# Altium integrated library TI_Logic_Little_Logic.IntLib: 1164 symbols (part 16 of 35)
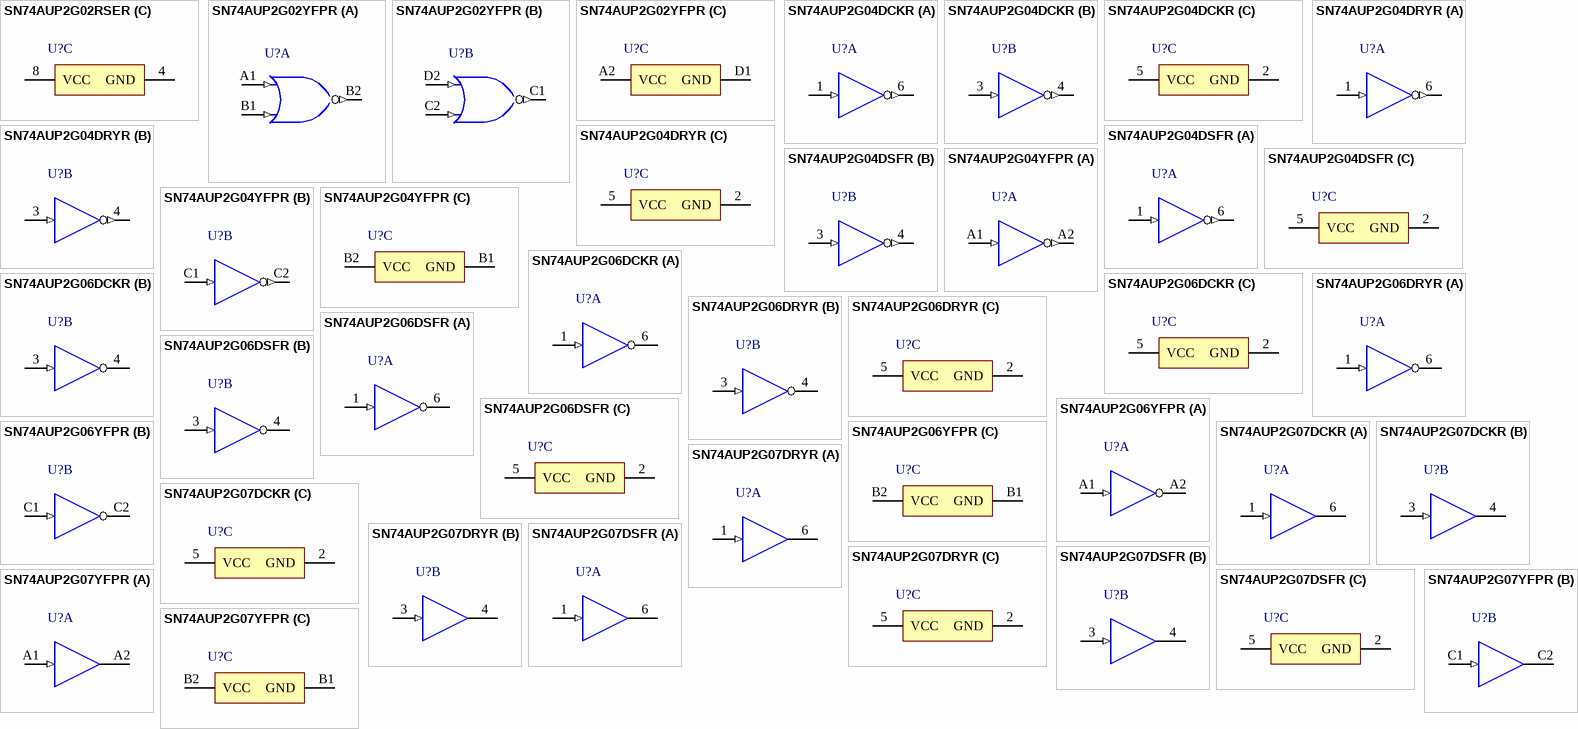
[diagram p75: symbols SN74AUP2G02RSER to SN74AUP2G07YFPR]

## SN74AUP2G07YFPR
designator U?
Low-Power Dual Buffer/Driver With Open-Drain Outputs, YZP0006AAAA, LARGE T&R; Generic Part Number: SN74AUP2G07; Manufacturer: Texas Instruments; PartNumber: SN74AUP2G07YFPR; VCC(Min)(V): 0.8; VCC(Max)(V): 3.6; Output Type: CMOS; ICC @ Nom Voltage(Max)(mA): 0.0009; Bits(#): 2; F @ Nom Voltage(Max)(Mhz): 100; Rating: Catalog; Technology Family: AUP; Voltage(Nom)(V): 0.8,1.2,1.5,1.8,2.5,3.3; Schmitt Trigger: No; Output Drive (IOL/IOH)(Max)(mA): 20/-20; tpd @ Nom Voltage(Max)(ns): 26.5,14.4,9.4,9.7,6.7,9.7; Logic: True; Sub-Family: Non-Inverting Buffer/Driver; DatasheetVersion: SCES748C; PackageReference: YZP0006AAAA; Supplier 1: Mouser; Supplier Part Number 1: 595-SN74AUP2G07YFPR; Supplier 2: Digi-Key; Supplier Part Number 2: 296-25206-2-ND; Supplier 3: Digi-Key; Supplier Part Number 3: 296-25206-1-ND; Supplier 4: Digi-Key; Supplier Part Number 4: 296-25206-6-ND; Input Type: CMOS; Operating Temperature Range(C): -40 to 85; 3-State Output: No; ComponentLink1Description: Manufacturer URL; ComponentLink1URL: http://www.ti.com/; ComponentLink2Description: Datasheet; ComponentLink2URL: http://www.ti.com/lit/ds/symlink/sn74aup2g07.pdf
footprint YZP0006AAAA (BGA, 6-Balls, Body 1.16x0.76mm, Pitch 0.4mm)
part A pins: A1 1A (in), A2 1Y (oc)
part B pins: C1 2A (in), C2 2Y (oc)
part C pins: B1 GND (power), B2 VCC (power)

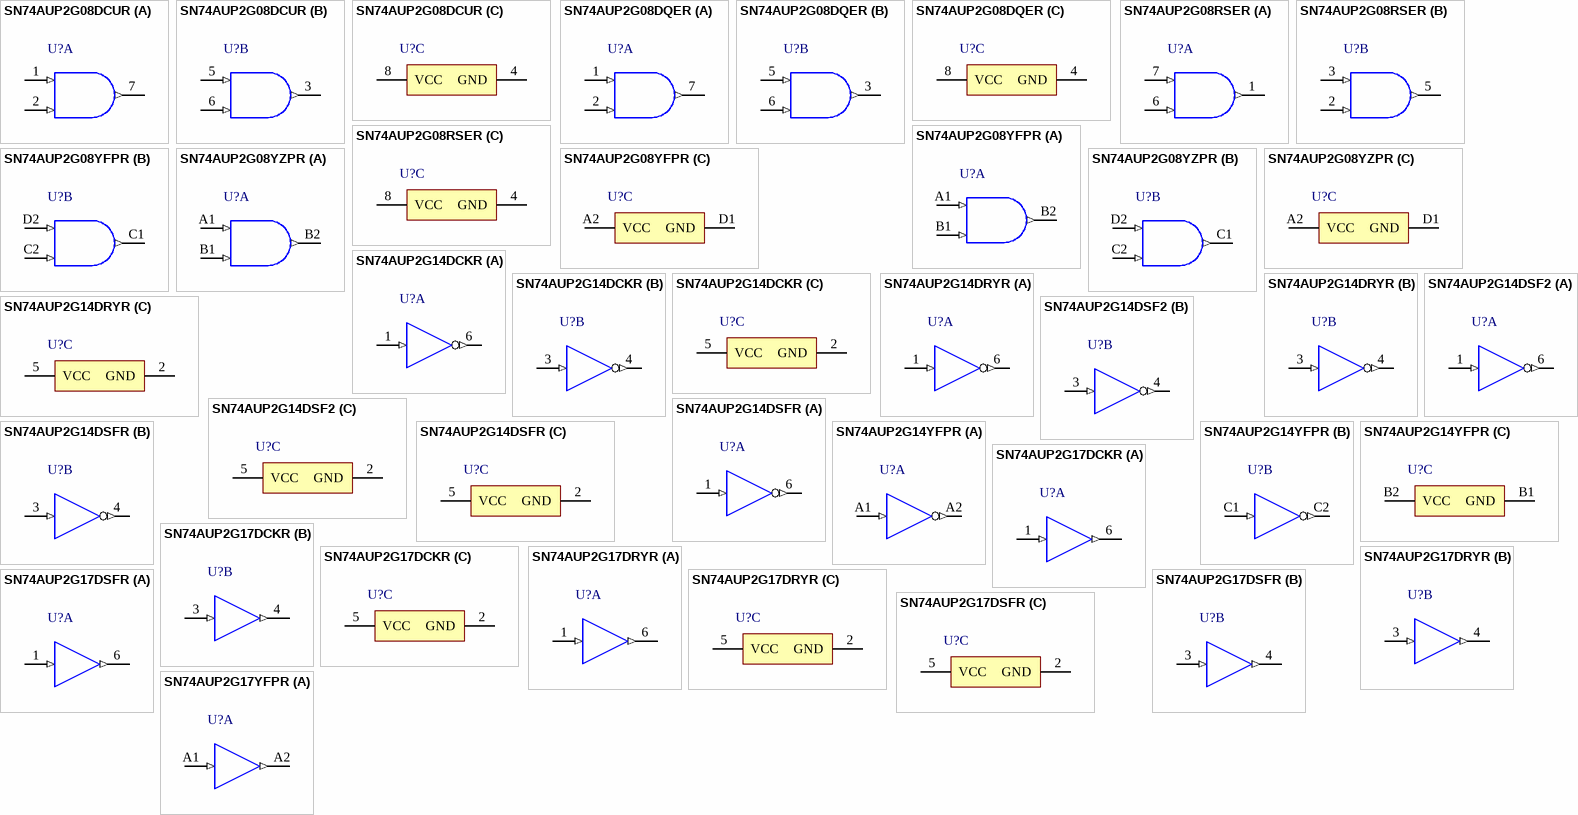
[diagram p25: symbols SN74AUP2G08DCUR to SN74AUP2G17YFPR]

## SN74AUP2G08DCUR
designator U?
Low-Power Dual 2-Input Positive-AND Gate, DCU0008A, LARGE T&R; Generic Part Number: SN74AUP2G08; Manufacturer: Texas Instruments; PartNumber: SN74AUP2G08DCUR; VCC(Min)(V): 0.8; VCC(Max)(V): 3.6; Output Type: CMOS; ICC @ Nom Voltage(Max)(mA): 0.0009; Bits(#): 2; F @ Nom Voltage(Max)(Mhz): 100; Rating: Catalog; Technology Family: AUP; Voltage(Nom)(V): 0.8,1.2,1.5,1.8,2.5,3.3; Schmitt Trigger: No; Output Drive (IOL/IOH)(Max)(mA): 20/-20; tpd @ Nom Voltage(Max)(ns): 31.8,26.3,16.6,12.9,8.8,6.7; Logic: True; Gate Type: AND; DatasheetVersion: SCES681D; PackageReference: DCU0008A; Supplier 1: Mouser; Supplier Part Number 1: 595-SN74AUP2G08DCUR; Supplier 2: Digi-Key; Supplier Part Number 2: 296-32271-2-ND; Supplier 3: Digi-Key; Supplier Part Number 3: 296-32271-1-ND; Supplier 4: Digi-Key; Supplier Part Number 4: 296-32271-6-ND; Input Type: CMOS; Operating Temperature Range(C): -40 to 85; Sub-Family: AND Gate; 3-State Output: No; ComponentLink1Description: Manufacturer URL; ComponentLink1URL: http://www.ti.com/; ComponentLink2Description: Datasheet; ComponentLink2URL: http://www.ti.com/lit/ds/symlink/sn74aup2g08.pdf
footprint DCU0008A_N (SOP, 8-Leads, Body 2.4x2.1mm, Pitch 0.5mm, IPC Medium Density)
footprint DCU0008A_M (SOP, 8-Leads, Body 2.4x2.1mm, Pitch 0.5mm, IPC Low Density)
footprint DCU0008A_L (SOP, 8-Leads, Body 2.4x2.1mm, Pitch 0.5mm, IPC High Density)
part A pins: 1 1A (in), 2 1B (in), 7 1Y (out)
part B pins: 3 2Y (out), 5 2A (in), 6 2B (in)
part C pins: 4 GND (power), 8 VCC (power)

## SN74AUP2G08DQER
designator U?
Low-Power Dual 2-Input Positive-AND Gate, DQE0008A, LARGE T&R; Generic Part Number: SN74AUP2G08; Manufacturer: Texas Instruments; PartNumber: SN74AUP2G08DQER; VCC(Min)(V): 0.8; VCC(Max)(V): 3.6; Output Type: CMOS; ICC @ Nom Voltage(Max)(mA): 0.0009; Bits(#): 2; F @ Nom Voltage(Max)(Mhz): 100; Rating: Catalog; Technology Family: AUP; Voltage(Nom)(V): 0.8,1.2,1.5,1.8,2.5,3.3; Schmitt Trigger: No; Output Drive (IOL/IOH)(Max)(mA): 20/-20; tpd @ Nom Voltage(Max)(ns): 31.8,26.3,16.6,12.9,8.8,6.7; Logic: True; Gate Type: AND; DatasheetVersion: SCES681D; PackageReference: DQE0008A; Supplier 1: Mouser; Supplier Part Number 1: 595-SN74AUP2G08DQER; Supplier 2: Digi-Key; Supplier Part Number 2: 296-25638-2-ND; Supplier 3: Digi-Key; Supplier Part Number 3: 296-25638-1-ND; Supplier 4: Digi-Key; Supplier Part Number 4: 296-25638-6-ND; Input Type: CMOS; Operating Temperature Range(C): -40 to 85; Sub-Family: AND Gate; 3-State Output: No; ComponentLink1Description: Manufacturer URL; ComponentLink1URL: http://www.ti.com/; ComponentLink2Description: Datasheet; ComponentLink2URL: http://www.ti.com/lit/ds/symlink/sn74aup2g08.pdf
footprint DQE0008A_V (SON, 8-Leads, Body 1.4x1mm, Pitch 0.35mm, TI Recommend)
part A pins: 1 1A (in), 2 1B (in), 7 1Y (out)
part B pins: 3 2Y (out), 5 2A (in), 6 2B (in)
part C pins: 4 GND (power), 8 VCC (power)

## SN74AUP2G08RSER
designator U?
Low-Power Dual 2-Input Positive-AND Gate, RSE0008A, LARGE T&R; Generic Part Number: SN74AUP2G08; Manufacturer: Texas Instruments; PartNumber: SN74AUP2G08RSER; VCC(Min)(V): 0.8; VCC(Max)(V): 3.6; Output Type: CMOS; ICC @ Nom Voltage(Max)(mA): 0.0009; Bits(#): 2; F @ Nom Voltage(Max)(Mhz): 100; Rating: Catalog; Technology Family: AUP; Voltage(Nom)(V): 0.8,1.2,1.5,1.8,2.5,3.3; Schmitt Trigger: No; Output Drive (IOL/IOH)(Max)(mA): 20/-20; tpd @ Nom Voltage(Max)(ns): 31.8,26.3,16.6,12.9,8.8,6.7; Logic: True; Gate Type: AND; DatasheetVersion: SCES681D; PackageReference: RSE0008A; Supplier 1: Mouser; Supplier Part Number 1: 595-SN74AUP2G08RSER; Supplier 2: Digi-Key; Supplier Part Number 2: 296-27412-2-ND; Supplier 3: Digi-Key; Supplier Part Number 3: 296-27412-1-ND; Supplier 4: Digi-Key; Supplier Part Number 4: 296-27412-6-ND; Input Type: CMOS; Operating Temperature Range(C): -40 to 85; Sub-Family: AND Gate; 3-State Output: No; ComponentLink1Description: Manufacturer URL; ComponentLink1URL: http://www.ti.com/; ComponentLink2Description: Datasheet; ComponentLink2URL: http://www.ti.com/lit/ds/symlink/sn74aup2g08.pdf
footprint RSE0008A_V (QFN, 8-Leads, Body 1.5x1.5mm, Pitch 0.5mm, TI Recommend)
part A pins: 1 1Y (out), 6 1B (in), 7 1A (in)
part B pins: 2 2B (in), 3 2A (in), 5 2Y (out)
part C pins: 4 GND (power), 8 VCC (power)

## SN74AUP2G08YFPR
designator U?
Low-Power Dual 2-Input Positive-AND Gate, YZP0008AAAA, LARGE T&R; Generic Part Number: SN74AUP2G08; Manufacturer: Texas Instruments; PartNumber: SN74AUP2G08YFPR; VCC(Min)(V): 0.8; VCC(Max)(V): 3.6; Output Type: CMOS; ICC @ Nom Voltage(Max)(mA): 0.0009; Bits(#): 2; F @ Nom Voltage(Max)(Mhz): 100; Rating: Catalog; Technology Family: AUP; Voltage(Nom)(V): 0.8,1.2,1.5,1.8,2.5,3.3; Schmitt Trigger: No; Output Drive (IOL/IOH)(Max)(mA): 20/-20; tpd @ Nom Voltage(Max)(ns): 31.8,26.3,16.6,12.9,8.8,6.7; Logic: True; Gate Type: AND; DatasheetVersion: SCES681D; PackageReference: YZP0008AAAA; Supplier 1: Mouser; Supplier Part Number 1: 595-SN74AUP2G08YFPR; Supplier 2: Digi-Key; Supplier Part Number 2: 296-23530-2-ND; Supplier 3: Digi-Key; Supplier Part Number 3: 296-23530-1-ND; Supplier 4: Digi-Key; Supplier Part Number 4: 296-23530-6-ND; Input Type: CMOS; Operating Temperature Range(C): -40 to 85; Sub-Family: AND Gate; 3-State Output: No; ComponentLink1Description: Manufacturer URL; ComponentLink1URL: http://www.ti.com/; ComponentLink2Description: Datasheet; ComponentLink2URL: http://www.ti.com/lit/ds/symlink/sn74aup2g08.pdf
footprint YZP0008AAAA (BGA, 8-Balls, Body 1.56x0.76mm, Pitch 0.4mm)
part A pins: A1 1A (in), B1 1B (in), B2 1Y (out)
part B pins: C1 2Y (out), C2 2B (in), D2 2A (in)
part C pins: A2 VCC (power), D1 GND (power)

## SN74AUP2G08YZPR
designator U?
Low-Power Dual 2-Input Positive-AND Gate, YZP0008ADAD, LARGE T&R; Generic Part Number: SN74AUP2G08; Manufacturer: Texas Instruments; PartNumber: SN74AUP2G08YZPR; VCC(Min)(V): 0.8; VCC(Max)(V): 3.6; Output Type: CMOS; ICC @ Nom Voltage(Max)(mA): 0.0009; Bits(#): 2; F @ Nom Voltage(Max)(Mhz): 100; Rating: Catalog; Technology Family: AUP; Voltage(Nom)(V): 0.8,1.2,1.5,1.8,2.5,3.3; Schmitt Trigger: No; Output Drive (IOL/IOH)(Max)(mA): 20/-20; tpd @ Nom Voltage(Max)(ns): 31.8,26.3,16.6,12.9,8.8,6.7; Logic: True; Gate Type: AND; DatasheetVersion: SCES681D; PackageReference: YZP0008ADAD; Supplier 1: Mouser; Supplier Part Number 1: 595-SN74AUP2G08YZPR; Supplier 2: Digi-Key; Supplier Part Number 2: 296-23531-2-ND; Supplier 3: Digi-Key; Supplier Part Number 3: 296-23531-1-ND; Supplier 4: Digi-Key; Supplier Part Number 4: 296-23531-6-ND; Input Type: CMOS; Operating Temperature Range(C): -40 to 85; Sub-Family: AND Gate; 3-State Output: No; ComponentLink1Description: Manufacturer URL; ComponentLink1URL: http://www.ti.com/; ComponentLink2Description: Datasheet; ComponentLink2URL: http://www.ti.com/lit/ds/symlink/sn74aup2g08.pdf
footprint YZP0008ADAD (BGA, 8-Balls, Body 1.89x0.89mm, Pitch 0.5mm)
part A pins: A1 1A (in), B1 1B (in), B2 1Y (out)
part B pins: C1 2Y (out), C2 2B (in), D2 2A (in)
part C pins: A2 VCC (power), D1 GND (power)

## SN74AUP2G14DCKR
designator U?
Low-Power Dual Schmitt-Trigger Inverter, DCK0006A, LARGE T&R; Generic Part Number: SN74AUP2G14; Manufacturer: Texas Instruments; PartNumber: SN74AUP2G14DCKR; VCC(Min)(V): 0.8; VCC(Max)(V): 3.6; Output Type: CMOS; ICC @ Nom Voltage(Max)(mA): 0.0009; Bits(#): 2; F @ Nom Voltage(Max)(Mhz): 100; Rating: Catalog; Technology Family: AUP; Voltage(Nom)(V): 0.8,1.2,1.5,1.8,2.5,3.3; Schmitt Trigger: Yes; Output Drive (IOL/IOH)(Max)(mA): 20/-20; tpd @ Nom Voltage(Max)(ns): 32.8,20.9,14.2,11,7.6,6.2; Logic: Inverting; Sub-Family: Inverting Buffer/Driver; 3-State Output: No; DatasheetVersion: SCES749C; PackageReference: DCK0006A; Supplier 1: Mouser; Supplier Part Number 1: 595-SN74AUP2G14DCKR; Supplier 2: Digi-Key; Supplier Part Number 2: 296-27361-2-ND; Supplier 3: Digi-Key; Supplier Part Number 3: 296-27361-1-ND; Supplier 4: Digi-Key; Supplier Part Number 4: 296-27361-6-ND; Input Type: CMOS; Operating Temperature Range(C): -40 to 85; ComponentLink1Description: Manufacturer URL; ComponentLink1URL: http://www.ti.com/; ComponentLink2Description: Datasheet; ComponentLink2URL: http://www.ti.com/lit/ds/symlink/sn74aup2g14.pdf
footprint DCK0006A_N (SOT23, 6-Leads, Body 2.15x1.4mm, Pitch 0.65mm, IPC Medium Density)
footprint DCK0006A_M (SOT23, 6-Leads, Body 2.15x1.4mm, Pitch 0.65mm, IPC Low Density)
footprint DCK0006A_L (SOT23, 6-Leads, Body 2.15x1.4mm, Pitch 0.65mm, IPC High Density)
part A pins: 1 1A (in), 6 1Y (out)
part B pins: 3 2A (in), 4 2Y (out)
part C pins: 2 GND (power), 5 VCC (power)

## SN74AUP2G14DRYR
designator U?
Low-Power Dual Schmitt-Trigger Inverter, DRY0006A, LARGE T&R; Generic Part Number: SN74AUP2G14; Manufacturer: Texas Instruments; PartNumber: SN74AUP2G14DRYR; VCC(Min)(V): 0.8; VCC(Max)(V): 3.6; Output Type: CMOS; ICC @ Nom Voltage(Max)(mA): 0.0009; Bits(#): 2; F @ Nom Voltage(Max)(Mhz): 100; Rating: Catalog; Technology Family: AUP; Voltage(Nom)(V): 0.8,1.2,1.5,1.8,2.5,3.3; Schmitt Trigger: Yes; Output Drive (IOL/IOH)(Max)(mA): 20/-20; tpd @ Nom Voltage(Max)(ns): 32.8,20.9,14.2,11,7.6,6.2; Logic: Inverting; Sub-Family: Inverting Buffer/Driver; 3-State Output: No; DatasheetVersion: SCES749C; PackageReference: DRY0006A; Supplier 1: Mouser; Supplier Part Number 1: 595-SN74AUP2G14DRYR; Supplier 2: Digi-Key; Supplier Part Number 2: 296-27362-2-ND; Supplier 3: Digi-Key; Supplier Part Number 3: 296-27362-1-ND; Supplier 4: Digi-Key; Supplier Part Number 4: 296-27362-6-ND; Input Type: CMOS; Operating Temperature Range(C): -40 to 85; ComponentLink1Description: Manufacturer URL; ComponentLink1URL: http://www.ti.com/; ComponentLink2Description: Datasheet; ComponentLink2URL: http://www.ti.com/lit/ds/symlink/sn74aup2g14.pdf
footprint DRY0006A_V (SON, 6-Leads, Body 1.45x1mm, Pitch 0.5mm)
part A pins: 1 1A (in), 6 1Y (out)
part B pins: 3 2A (in), 4 2Y (out)
part C pins: 2 GND (power), 5 VCC (power)

## SN74AUP2G14DSF2
designator U?
Low-Power Dual Schmitt-Trigger Inverter, DSF0006A, LARGE T&R; Generic Part Number: SN74AUP2G14; Manufacturer: Texas Instruments; PartNumber: SN74AUP2G14DSF2; VCC(Min)(V): 0.8; VCC(Max)(V): 3.6; Output Type: CMOS; ICC @ Nom Voltage(Max)(mA): 0.0009; Bits(#): 2; F @ Nom Voltage(Max)(Mhz): 100; Rating: Catalog; Technology Family: AUP; Voltage(Nom)(V): 0.8,1.2,1.5,1.8,2.5,3.3; Schmitt Trigger: Yes; Output Drive (IOL/IOH)(Max)(mA): 20/-20; tpd @ Nom Voltage(Max)(ns): 32.8,20.9,14.2,11,7.6,6.2; Logic: Inverting; Sub-Family: Inverting Buffer/Driver; 3-State Output: No; DatasheetVersion: SCES749C; PackageReference: DSF0006A; Supplier 1: Mouser; Supplier Part Number 1: 595-SN74AUP2G14DSF2; Supplier 2: Digi-Key; Supplier Part Number 2: 296-30287-2-ND; Supplier 3: Digi-Key; Supplier Part Number 3: 296-30287-1-ND; Supplier 4: Digi-Key; Supplier Part Number 4: 296-30287-6-ND; Input Type: CMOS; Operating Temperature Range(C): -40 to 85; ComponentLink1Description: Manufacturer URL; ComponentLink1URL: http://www.ti.com/; ComponentLink2Description: Datasheet; ComponentLink2URL: http://www.ti.com/lit/ds/symlink/sn74aup2g14.pdf
footprint DSF0006A_V (SON, 6-Leads, Body 1x1mm, Pitch 0.35mm, TI Recommend)
part A pins: 1 1A (in), 6 1Y (out)
part B pins: 3 2A (in), 4 2Y (out)
part C pins: 2 GND (power), 5 VCC (power)

## SN74AUP2G14DSFR
designator U?
Low-Power Dual Schmitt-Trigger Inverter, DSF0006A, LARGE T&R; Generic Part Number: SN74AUP2G14; Manufacturer: Texas Instruments; PartNumber: SN74AUP2G14DSFR; VCC(Min)(V): 0.8; VCC(Max)(V): 3.6; Output Type: CMOS; ICC @ Nom Voltage(Max)(mA): 0.0009; Bits(#): 2; F @ Nom Voltage(Max)(Mhz): 100; Rating: Catalog; Technology Family: AUP; Voltage(Nom)(V): 0.8,1.2,1.5,1.8,2.5,3.3; Schmitt Trigger: Yes; Output Drive (IOL/IOH)(Max)(mA): 20/-20; tpd @ Nom Voltage(Max)(ns): 32.8,20.9,14.2,11,7.6,6.2; Logic: Inverting; Sub-Family: Inverting Buffer/Driver; 3-State Output: No; DatasheetVersion: SCES749C; PackageReference: DSF0006A; Supplier 1: Mouser; Supplier Part Number 1: 595-SN74AUP2G14DSFR; Supplier 2: Digi-Key; Supplier Part Number 2: 296-27363-2-ND; Supplier 3: Digi-Key; Supplier Part Number 3: 296-27363-1-ND; Supplier 4: Digi-Key; Supplier Part Number 4: 296-27363-6-ND; Input Type: CMOS; Operating Temperature Range(C): -40 to 85; ComponentLink1Description: Manufacturer URL; ComponentLink1URL: http://www.ti.com/; ComponentLink2Description: Datasheet; ComponentLink2URL: http://www.ti.com/lit/ds/symlink/sn74aup2g14.pdf
footprint DSF0006A_V (SON, 6-Leads, Body 1x1mm, Pitch 0.35mm, TI Recommend)
part A pins: 1 1A (in), 6 1Y (out)
part B pins: 3 2A (in), 4 2Y (out)
part C pins: 2 GND (power), 5 VCC (power)

## SN74AUP2G14YFPR
designator U?
Low-Power Dual Schmitt-Trigger Inverter, YZP0006AAAA, LARGE T&R; Generic Part Number: SN74AUP2G14; Manufacturer: Texas Instruments; PartNumber: SN74AUP2G14YFPR; VCC(Min)(V): 0.8; VCC(Max)(V): 3.6; Output Type: CMOS; ICC @ Nom Voltage(Max)(mA): 0.0009; Bits(#): 2; F @ Nom Voltage(Max)(Mhz): 100; Rating: Catalog; Technology Family: AUP; Voltage(Nom)(V): 0.8,1.2,1.5,1.8,2.5,3.3; Schmitt Trigger: Yes; Output Drive (IOL/IOH)(Max)(mA): 20/-20; tpd @ Nom Voltage(Max)(ns): 32.8,20.9,14.2,11,7.6,6.2; Logic: Inverting; Sub-Family: Inverting Buffer/Driver; 3-State Output: No; DatasheetVersion: SCES749C; PackageReference: YZP0006AAAA; Supplier 1: Mouser; Supplier Part Number 1: 595-SN74AUP2G14YFPR; Supplier 2: Digi-Key; Supplier Part Number 2: 296-25207-2-ND; Supplier 3: Digi-Key; Supplier Part Number 3: 296-25207-1-ND; Supplier 4: Digi-Key; Supplier Part Number 4: 296-25207-6-ND; Input Type: CMOS; Operating Temperature Range(C): -40 to 85; ComponentLink1Description: Manufacturer URL; ComponentLink1URL: http://www.ti.com/; ComponentLink2Description: Datasheet; ComponentLink2URL: http://www.ti.com/lit/ds/symlink/sn74aup2g14.pdf
footprint YZP0006AAAA (BGA, 6-Balls, Body 1.16x0.76mm, Pitch 0.4mm)
part A pins: A1 1A (in), A2 1Y (out)
part B pins: C1 2A (in), C2 2Y (out)
part C pins: B1 GND (power), B2 VCC (power)

## SN74AUP2G17DCKR
designator U?
Low-Power Dual Schmitt-Trigger Buffer, DCK0006A, LARGE T&R; Generic Part Number: SN74AUP2G17; Manufacturer: Texas Instruments; PartNumber: SN74AUP2G17DCKR; VCC(Min)(V): 0.8; VCC(Max)(V): 3.6; Output Type: CMOS; ICC @ Nom Voltage(Max)(mA): 0.0009; Bits(#): 2; F @ Nom Voltage(Max)(Mhz): 100; Rating: Catalog; Technology Family: AUP; Voltage(Nom)(V): 0.8,1.2,1.5,1.8,2.5,3.3; Schmitt Trigger: Yes; Output Drive (IOL/IOH)(Max)(mA): 20/-20; tpd @ Nom Voltage(Max)(ns): 35.1,18.1,12.9,11,7.9,6.7; Logic: True; Sub-Family: Non-Inverting Buffer/Driver; 3-State Output: No; DatasheetVersion: SCES750A; PackageReference: DCK0006A; Supplier 1: Mouser; Supplier Part Number 1: 595-SN74AUP2G17DCKR; Supplier 2: Digi-Key; Supplier Part Number 2: 296-27364-2-ND; Supplier 3: Digi-Key; Supplier Part Number 3: 296-27364-1-ND; Supplier 4: Digi-Key; Supplier Part Number 4: 296-27364-6-ND; Input Type: CMOS; Operating Temperature Range(C): -40 to 85; ComponentLink1Description: Manufacturer URL; ComponentLink1URL: http://www.ti.com/; ComponentLink2Description: Datasheet; ComponentLink2URL: http://www.ti.com/lit/ds/symlink/sn74aup2g17.pdf
footprint DCK0006A_N (SOT23, 6-Leads, Body 2.15x1.4mm, Pitch 0.65mm, IPC Medium Density)
footprint DCK0006A_M (SOT23, 6-Leads, Body 2.15x1.4mm, Pitch 0.65mm, IPC Low Density)
footprint DCK0006A_L (SOT23, 6-Leads, Body 2.15x1.4mm, Pitch 0.65mm, IPC High Density)
part A pins: 1 1A (in), 6 1Y (out)
part B pins: 3 2A (in), 4 2Y (out)
part C pins: 2 GND (power), 5 VCC (power)

## SN74AUP2G17DRYR
designator U?
Low-Power Dual Schmitt-Trigger Buffer, DRY0006A, LARGE T&R; Generic Part Number: SN74AUP2G17; Manufacturer: Texas Instruments; PartNumber: SN74AUP2G17DRYR; VCC(Min)(V): 0.8; VCC(Max)(V): 3.6; Output Type: CMOS; ICC @ Nom Voltage(Max)(mA): 0.0009; Bits(#): 2; F @ Nom Voltage(Max)(Mhz): 100; Rating: Catalog; Technology Family: AUP; Voltage(Nom)(V): 0.8,1.2,1.5,1.8,2.5,3.3; Schmitt Trigger: Yes; Output Drive (IOL/IOH)(Max)(mA): 20/-20; tpd @ Nom Voltage(Max)(ns): 35.1,18.1,12.9,11,7.9,6.7; Logic: True; Sub-Family: Non-Inverting Buffer/Driver; 3-State Output: No; DatasheetVersion: SCES750A; PackageReference: DRY0006A; Supplier 1: Mouser; Supplier Part Number 1: 595-SN74AUP2G17DRYR; Supplier 2: Digi-Key; Supplier Part Number 2: 296-27365-2-ND; Supplier 3: Digi-Key; Supplier Part Number 3: 296-27365-1-ND; Supplier 4: Digi-Key; Supplier Part Number 4: 296-27365-6-ND; Input Type: CMOS; Operating Temperature Range(C): -40 to 85; ComponentLink1Description: Manufacturer URL; ComponentLink1URL: http://www.ti.com/; ComponentLink2Description: Datasheet; ComponentLink2URL: http://www.ti.com/lit/ds/symlink/sn74aup2g17.pdf
footprint DRY0006A_V (SON, 6-Leads, Body 1.45x1mm, Pitch 0.5mm)
part A pins: 1 1A (in), 6 1Y (out)
part B pins: 3 2A (in), 4 2Y (out)
part C pins: 2 GND (power), 5 VCC (power)

## SN74AUP2G17DSFR
designator U?
Low-Power Dual Schmitt-Trigger Buffer, DSF0006A, LARGE T&R; Generic Part Number: SN74AUP2G17; Manufacturer: Texas Instruments; PartNumber: SN74AUP2G17DSFR; VCC(Min)(V): 0.8; VCC(Max)(V): 3.6; Output Type: CMOS; ICC @ Nom Voltage(Max)(mA): 0.0009; Bits(#): 2; F @ Nom Voltage(Max)(Mhz): 100; Rating: Catalog; Technology Family: AUP; Voltage(Nom)(V): 0.8,1.2,1.5,1.8,2.5,3.3; Schmitt Trigger: Yes; Output Drive (IOL/IOH)(Max)(mA): 20/-20; tpd @ Nom Voltage(Max)(ns): 35.1,18.1,12.9,11,7.9,6.7; Logic: True; Sub-Family: Non-Inverting Buffer/Driver; 3-State Output: No; DatasheetVersion: SCES750A; PackageReference: DSF0006A; Supplier 1: Mouser; Supplier Part Number 1: 595-SN74AUP2G17DSFR; Supplier 2: Digi-Key; Supplier Part Number 2: 296-27366-2-ND; Supplier 3: Digi-Key; Supplier Part Number 3: 296-27366-1-ND; Supplier 4: Digi-Key; Supplier Part Number 4: 296-27366-6-ND; Input Type: CMOS; Operating Temperature Range(C): -40 to 85; ComponentLink1Description: Manufacturer URL; ComponentLink1URL: http://www.ti.com/; ComponentLink2Description: Datasheet; ComponentLink2URL: http://www.ti.com/lit/ds/symlink/sn74aup2g17.pdf
footprint DSF0006A_V (SON, 6-Leads, Body 1x1mm, Pitch 0.35mm, TI Recommend)
part A pins: 1 1A (in), 6 1Y (out)
part B pins: 3 2A (in), 4 2Y (out)
part C pins: 2 GND (power), 5 VCC (power)

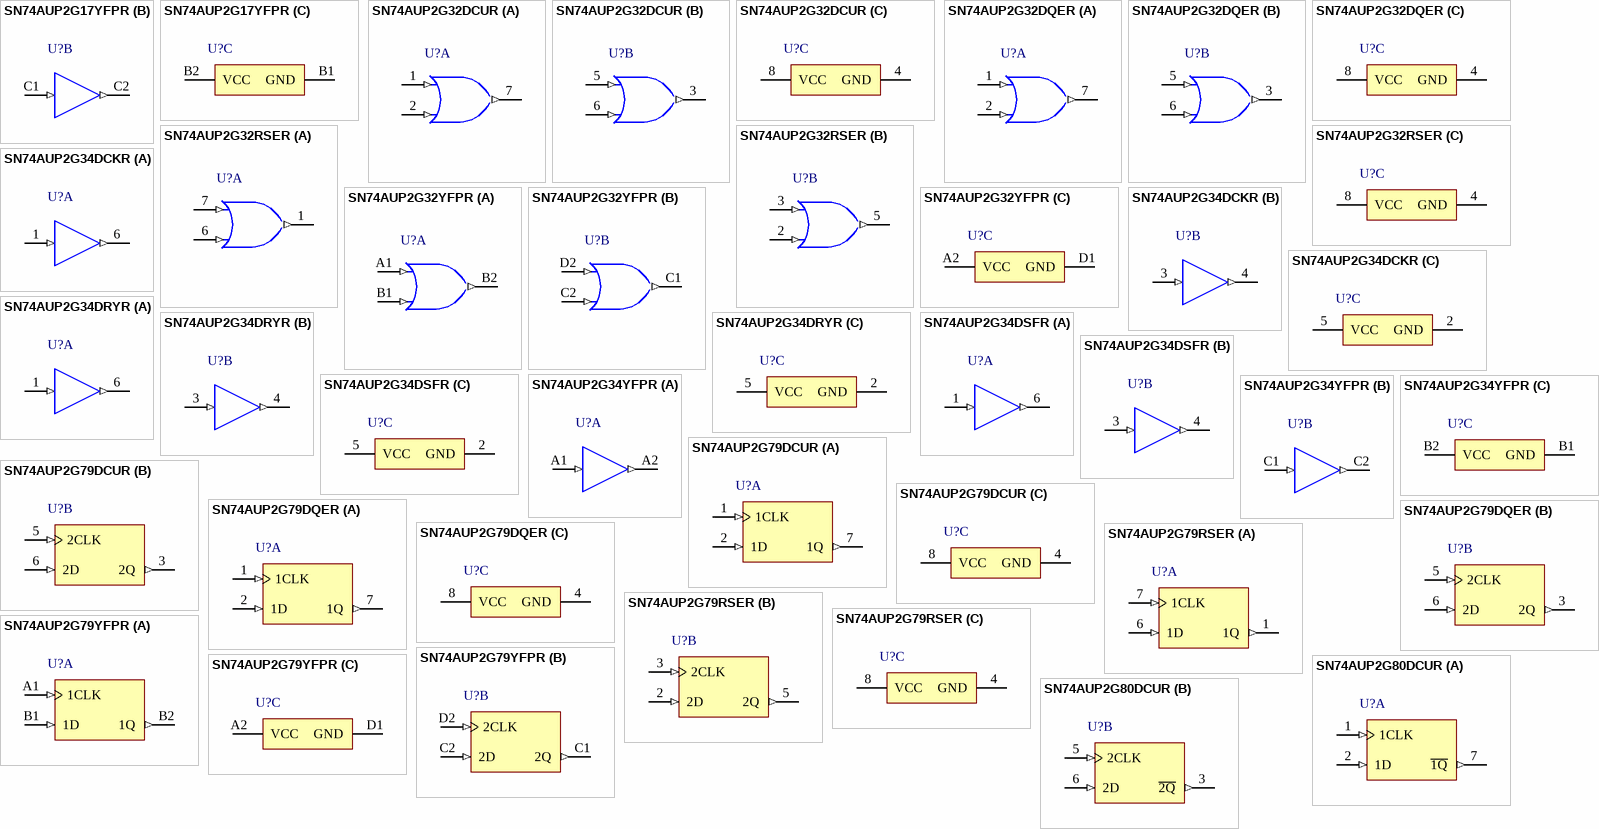
[diagram p26: symbols SN74AUP2G17YFPR to SN74AUP2G80DCUR]

## SN74AUP2G17YFPR
designator U?
Low-Power Dual Schmitt-Trigger Buffer, YZP0006AAAA, LARGE T&R; Generic Part Number: SN74AUP2G17; Manufacturer: Texas Instruments; PartNumber: SN74AUP2G17YFPR; VCC(Min)(V): 0.8; VCC(Max)(V): 3.6; Output Type: CMOS; ICC @ Nom Voltage(Max)(mA): 0.0009; Bits(#): 2; F @ Nom Voltage(Max)(Mhz): 100; Rating: Catalog; Technology Family: AUP; Voltage(Nom)(V): 0.8,1.2,1.5,1.8,2.5,3.3; Schmitt Trigger: Yes; Output Drive (IOL/IOH)(Max)(mA): 20/-20; tpd @ Nom Voltage(Max)(ns): 35.1,18.1,12.9,11,7.9,6.7; Logic: True; Sub-Family: Non-Inverting Buffer/Driver; 3-State Output: No; DatasheetVersion: SCES750A; PackageReference: YZP0006AAAA; Supplier 1: Mouser; Supplier Part Number 1: 595-SN74AUP2G17YFPR; Supplier 2: Digi-Key; Supplier Part Number 2: 296-25208-2-ND; Supplier 3: Digi-Key; Supplier Part Number 3: 296-25208-1-ND; Supplier 4: Digi-Key; Supplier Part Number 4: 296-25208-6-ND; Input Type: CMOS; Operating Temperature Range(C): -40 to 85; ComponentLink1Description: Manufacturer URL; ComponentLink1URL: http://www.ti.com/; ComponentLink2Description: Datasheet; ComponentLink2URL: http://www.ti.com/lit/ds/symlink/sn74aup2g17.pdf
footprint YZP0006AAAA (BGA, 6-Balls, Body 1.16x0.76mm, Pitch 0.4mm)
part A pins: A1 1A (in), A2 1Y (out)
part B pins: C1 2A (in), C2 2Y (out)
part C pins: B1 GND (power), B2 VCC (power)

## SN74AUP2G32DCUR
designator U?
Low-Power Dual 2-Input Positive-OR Gate, DCU0008A, LARGE T&R; Generic Part Number: SN74AUP2G32; Manufacturer: Texas Instruments; PartNumber: SN74AUP2G32DCUR; VCC(Min)(V): 0.8; VCC(Max)(V): 3.6; Output Type: CMOS; ICC @ Nom Voltage(Max)(mA): 0.0009; Bits(#): 2; F @ Nom Voltage(Max)(Mhz): 100; Rating: Catalog; Technology Family: AUP; Voltage(Nom)(V): 0.8,1.2,1.5,1.8,2.5,3.3; Schmitt Trigger: No; Output Drive (IOL/IOH)(Max)(mA): 20/-20; tpd @ Nom Voltage(Max)(ns): 32.8,20.9,14.2,11,7.6,6.2; Logic: True; Gate Type: OR; Sub-Family: OR Gate; DatasheetVersion: SCES754B; PackageReference: DCU0008A; Supplier 1: Mouser; Supplier Part Number 1: 595-SN74AUP2G32DCUR; Supplier 2: Digi-Key; Supplier Part Number 2: 296-32275-2-ND; Supplier 3: Digi-Key; Supplier Part Number 3: 296-32275-1-ND; Supplier 4: Digi-Key; Supplier Part Number 4: 296-32275-6-ND; Input Type: CMOS; Operating Temperature Range(C): -40 to 85; 3-State Output: No; ComponentLink1Description: Manufacturer URL; ComponentLink1URL: http://www.ti.com/; ComponentLink2Description: Datasheet; ComponentLink2URL: http://www.ti.com/lit/ds/symlink/sn74aup2g32.pdf
footprint DCU0008A_N (SOP, 8-Leads, Body 2.4x2.1mm, Pitch 0.5mm, IPC Medium Density)
footprint DCU0008A_M (SOP, 8-Leads, Body 2.4x2.1mm, Pitch 0.5mm, IPC Low Density)
footprint DCU0008A_L (SOP, 8-Leads, Body 2.4x2.1mm, Pitch 0.5mm, IPC High Density)
part A pins: 1 1A (in), 2 1B (in), 7 1Y (out)
part B pins: 3 2Y (out), 5 2A (in), 6 2B (in)
part C pins: 4 GND (power), 8 VCC (power)

## SN74AUP2G32DQER
designator U?
Low-Power Dual 2-Input Positive-OR Gate, DQE0008A, LARGE T&R; Generic Part Number: SN74AUP2G32; Manufacturer: Texas Instruments; PartNumber: SN74AUP2G32DQER; VCC(Min)(V): 0.8; VCC(Max)(V): 3.6; Output Type: CMOS; ICC @ Nom Voltage(Max)(mA): 0.0009; Bits(#): 2; F @ Nom Voltage(Max)(Mhz): 100; Rating: Catalog; Technology Family: AUP; Voltage(Nom)(V): 0.8,1.2,1.5,1.8,2.5,3.3; Schmitt Trigger: No; Output Drive (IOL/IOH)(Max)(mA): 20/-20; tpd @ Nom Voltage(Max)(ns): 32.8,20.9,14.2,11,7.6,6.2; Logic: True; Gate Type: OR; Sub-Family: OR Gate; DatasheetVersion: SCES754B; PackageReference: DQE0008A; Supplier 1: Mouser; Supplier Part Number 1: 595-SN74AUP2G32DQER; Supplier 2: Digi-Key; Supplier Part Number 2: 296-25873-2-ND; Supplier 3: Digi-Key; Supplier Part Number 3: 296-25873-1-ND; Supplier 4: Digi-Key; Supplier Part Number 4: 296-25873-6-ND; Input Type: CMOS; Operating Temperature Range(C): -40 to 85; 3-State Output: No; ComponentLink1Description: Manufacturer URL; ComponentLink1URL: http://www.ti.com/; ComponentLink2Description: Datasheet; ComponentLink2URL: http://www.ti.com/lit/ds/symlink/sn74aup2g32.pdf
footprint DQE0008A_V (SON, 8-Leads, Body 1.4x1mm, Pitch 0.35mm, TI Recommend)
part A pins: 1 1A (in), 2 1B (in), 7 1Y (out)
part B pins: 3 2Y (out), 5 2A (in), 6 2B (in)
part C pins: 4 GND (power), 8 VCC (power)

## SN74AUP2G32RSER
designator U?
Low-Power Dual 2-Input Positive-OR Gate, RSE0008A, LARGE T&R; Generic Part Number: SN74AUP2G32; Manufacturer: Texas Instruments; PartNumber: SN74AUP2G32RSER; VCC(Min)(V): 0.8; VCC(Max)(V): 3.6; Output Type: CMOS; ICC @ Nom Voltage(Max)(mA): 0.0009; Bits(#): 2; F @ Nom Voltage(Max)(Mhz): 100; Rating: Catalog; Technology Family: AUP; Voltage(Nom)(V): 0.8,1.2,1.5,1.8,2.5,3.3; Schmitt Trigger: No; Output Drive (IOL/IOH)(Max)(mA): 20/-20; tpd @ Nom Voltage(Max)(ns): 32.8,20.9,14.2,11,7.6,6.2; Logic: True; Gate Type: OR; Sub-Family: OR Gate; DatasheetVersion: SCES754B; PackageReference: RSE0008A; Supplier 1: Mouser; Supplier Part Number 1: 595-SN74AUP2G32RSER; Supplier 2: Digi-Key; Supplier Part Number 2: 296-27369-2-ND; Supplier 3: Digi-Key; Supplier Part Number 3: 296-27369-1-ND; Supplier 4: Digi-Key; Supplier Part Number 4: 296-27369-6-ND; Input Type: CMOS; Operating Temperature Range(C): -40 to 85; 3-State Output: No; ComponentLink1Description: Manufacturer URL; ComponentLink1URL: http://www.ti.com/; ComponentLink2Description: Datasheet; ComponentLink2URL: http://www.ti.com/lit/ds/symlink/sn74aup2g32.pdf
footprint RSE0008A_V (QFN, 8-Leads, Body 1.5x1.5mm, Pitch 0.5mm, TI Recommend)
part A pins: 1 1Y (out), 6 1B (in), 7 1A (in)
part B pins: 2 2B (in), 3 2A (in), 5 2Y (out)
part C pins: 4 GND (power), 8 VCC (power)

## SN74AUP2G32YFPR
designator U?
Low-Power Dual 2-Input Positive-OR Gate, YZP0008AAAA, LARGE T&R; Generic Part Number: SN74AUP2G32; Manufacturer: Texas Instruments; PartNumber: SN74AUP2G32YFPR; VCC(Min)(V): 0.8; VCC(Max)(V): 3.6; Output Type: CMOS; ICC @ Nom Voltage(Max)(mA): 0.0009; Bits(#): 2; F @ Nom Voltage(Max)(Mhz): 100; Rating: Catalog; Technology Family: AUP; Voltage(Nom)(V): 0.8,1.2,1.5,1.8,2.5,3.3; Schmitt Trigger: No; Output Drive (IOL/IOH)(Max)(mA): 20/-20; tpd @ Nom Voltage(Max)(ns): 32.8,20.9,14.2,11,7.6,6.2; Logic: True; Gate Type: OR; Sub-Family: OR Gate; DatasheetVersion: SCES754B; PackageReference: YZP0008AAAA; Supplier 1: Mouser; Supplier Part Number 1: 595-SN74AUP2G32YFPR; Supplier 2: Digi-Key; Supplier Part Number 2: 296-25209-2-ND; Supplier 3: Digi-Key; Supplier Part Number 3: 296-25209-1-ND; Supplier 4: Digi-Key; Supplier Part Number 4: 296-25209-6-ND; Input Type: CMOS; Operating Temperature Range(C): -40 to 85; 3-State Output: No; ComponentLink1Description: Manufacturer URL; ComponentLink1URL: http://www.ti.com/; ComponentLink2Description: Datasheet; ComponentLink2URL: http://www.ti.com/lit/ds/symlink/sn74aup2g32.pdf
footprint YZP0008AAAA (BGA, 8-Balls, Body 1.56x0.76mm, Pitch 0.4mm)
part A pins: A1 1A (in), B1 1B (in), B2 1Y (out)
part B pins: C1 2Y (out), C2 2B (in), D2 2A (in)
part C pins: A2 VCC (power), D1 GND (power)

## SN74AUP2G34DCKR
designator U?
Low-Power Dual Buffer Gate, DCK0006A, LARGE T&R; Generic Part Number: SN74AUP2G34; Manufacturer: Texas Instruments; PartNumber: SN74AUP2G34DCKR; VCC(Min)(V): 0.8; VCC(Max)(V): 3.6; Output Type: CMOS; ICC @ Nom Voltage(Max)(mA): 0.0009; Bits(#): 2; F @ Nom Voltage(Max)(Mhz): 100; Rating: Catalog; Technology Family: AUP; Voltage(Nom)(V): 0.8,1.2,1.5,1.8,2.5,3.3; Schmitt Trigger: No; Output Drive (IOL/IOH)(Max)(mA): 20/-20; tpd @ Nom Voltage(Max)(ns): 32.8,20.9,14.2,11,7.6,6.2; Logic: True; Sub-Family: Non-Inverting Buffer/Driver; DatasheetVersion: SCES751B; PackageReference: DCK0006A; Supplier 1: Mouser; Supplier Part Number 1: 595-SN74AUP2G34DCKR; Supplier 2: Digi-Key; Supplier Part Number 2: 296-27370-2-ND; Supplier 3: Digi-Key; Supplier Part Number 3: 296-27370-1-ND; Supplier 4: Digi-Key; Supplier Part Number 4: 296-27370-6-ND; Input Type: CMOS; Operating Temperature Range(C): -40 to 85; 3-State Output: No; ComponentLink1Description: Manufacturer URL; ComponentLink1URL: http://www.ti.com/; ComponentLink2Description: Datasheet; ComponentLink2URL: http://www.ti.com/lit/ds/symlink/sn74aup2g34.pdf
footprint DCK0006A_N (SOT23, 6-Leads, Body 2.15x1.4mm, Pitch 0.65mm, IPC Medium Density)
footprint DCK0006A_M (SOT23, 6-Leads, Body 2.15x1.4mm, Pitch 0.65mm, IPC Low Density)
footprint DCK0006A_L (SOT23, 6-Leads, Body 2.15x1.4mm, Pitch 0.65mm, IPC High Density)
part A pins: 1 1A (in), 6 1Y (out)
part B pins: 3 2A (in), 4 2Y (out)
part C pins: 2 GND (power), 5 VCC (power)

## SN74AUP2G34DRYR
designator U?
Low-Power Dual Buffer Gate, DRY0006A, LARGE T&R; Generic Part Number: SN74AUP2G34; Manufacturer: Texas Instruments; PartNumber: SN74AUP2G34DRYR; VCC(Min)(V): 0.8; VCC(Max)(V): 3.6; Output Type: CMOS; ICC @ Nom Voltage(Max)(mA): 0.0009; Bits(#): 2; F @ Nom Voltage(Max)(Mhz): 100; Rating: Catalog; Technology Family: AUP; Voltage(Nom)(V): 0.8,1.2,1.5,1.8,2.5,3.3; Schmitt Trigger: No; Output Drive (IOL/IOH)(Max)(mA): 20/-20; tpd @ Nom Voltage(Max)(ns): 32.8,20.9,14.2,11,7.6,6.2; Logic: True; Sub-Family: Non-Inverting Buffer/Driver; DatasheetVersion: SCES751B; PackageReference: DRY0006A; Supplier 1: Mouser; Supplier Part Number 1: 595-SN74AUP2G34DRYR; Supplier 2: Digi-Key; Supplier Part Number 2: 296-27371-2-ND; Supplier 3: Digi-Key; Supplier Part Number 3: 296-27371-1-ND; Supplier 4: Digi-Key; Supplier Part Number 4: 296-27371-6-ND; Input Type: CMOS; Operating Temperature Range(C): -40 to 85; 3-State Output: No; ComponentLink1Description: Manufacturer URL; ComponentLink1URL: http://www.ti.com/; ComponentLink2Description: Datasheet; ComponentLink2URL: http://www.ti.com/lit/ds/symlink/sn74aup2g34.pdf
footprint DRY0006A_V (SON, 6-Leads, Body 1.45x1mm, Pitch 0.5mm)
part A pins: 1 1A (in), 6 1Y (out)
part B pins: 3 2A (in), 4 2Y (out)
part C pins: 2 GND (power), 5 VCC (power)

## SN74AUP2G34DSFR
designator U?
Low-Power Dual Buffer Gate, DSF0006A, LARGE T&R; Generic Part Number: SN74AUP2G34; Manufacturer: Texas Instruments; PartNumber: SN74AUP2G34DSFR; VCC(Min)(V): 0.8; VCC(Max)(V): 3.6; Output Type: CMOS; ICC @ Nom Voltage(Max)(mA): 0.0009; Bits(#): 2; F @ Nom Voltage(Max)(Mhz): 100; Rating: Catalog; Technology Family: AUP; Voltage(Nom)(V): 0.8,1.2,1.5,1.8,2.5,3.3; Schmitt Trigger: No; Output Drive (IOL/IOH)(Max)(mA): 20/-20; tpd @ Nom Voltage(Max)(ns): 32.8,20.9,14.2,11,7.6,6.2; Logic: True; Sub-Family: Non-Inverting Buffer/Driver; DatasheetVersion: SCES751B; PackageReference: DSF0006A; Supplier 1: Mouser; Supplier Part Number 1: 595-SN74AUP2G34DSFR; Supplier 2: Digi-Key; Supplier Part Number 2: 296-25620-2-ND; Supplier 3: Digi-Key; Supplier Part Number 3: 296-25620-1-ND; Supplier 4: Digi-Key; Supplier Part Number 4: 296-25620-6-ND; Input Type: CMOS; Operating Temperature Range(C): -40 to 85; 3-State Output: No; ComponentLink1Description: Manufacturer URL; ComponentLink1URL: http://www.ti.com/; ComponentLink2Description: Datasheet; ComponentLink2URL: http://www.ti.com/lit/ds/symlink/sn74aup2g34.pdf
footprint DSF0006A_V (SON, 6-Leads, Body 1x1mm, Pitch 0.35mm, TI Recommend)
part A pins: 1 1A (in), 6 1Y (out)
part B pins: 3 2A (in), 4 2Y (out)
part C pins: 2 GND (power), 5 VCC (power)

## SN74AUP2G34YFPR
designator U?
Low-Power Dual Buffer Gate, YZP0006AAAA, LARGE T&R; Generic Part Number: SN74AUP2G34; Manufacturer: Texas Instruments; PartNumber: SN74AUP2G34YFPR; VCC(Min)(V): 0.8; VCC(Max)(V): 3.6; Output Type: CMOS; ICC @ Nom Voltage(Max)(mA): 0.0009; Bits(#): 2; F @ Nom Voltage(Max)(Mhz): 100; Rating: Catalog; Technology Family: AUP; Voltage(Nom)(V): 0.8,1.2,1.5,1.8,2.5,3.3; Schmitt Trigger: No; Output Drive (IOL/IOH)(Max)(mA): 20/-20; tpd @ Nom Voltage(Max)(ns): 32.8,20.9,14.2,11,7.6,6.2; Logic: True; Sub-Family: Non-Inverting Buffer/Driver; DatasheetVersion: SCES751B; PackageReference: YZP0006AAAA; Supplier 1: Mouser; Supplier Part Number 1: 595-SN74AUP2G34YFPR; Supplier 2: Digi-Key; Supplier Part Number 2: 296-25210-2-ND; Supplier 3: Digi-Key; Supplier Part Number 3: 296-25210-1-ND; Supplier 4: Digi-Key; Supplier Part Number 4: 296-25210-6-ND; Input Type: CMOS; Operating Temperature Range(C): -40 to 85; 3-State Output: No; ComponentLink1Description: Manufacturer URL; ComponentLink1URL: http://www.ti.com/; ComponentLink2Description: Datasheet; ComponentLink2URL: http://www.ti.com/lit/ds/symlink/sn74aup2g34.pdf
footprint YZP0006AAAA (BGA, 6-Balls, Body 1.16x0.76mm, Pitch 0.4mm)
part A pins: A1 1A (in), A2 1Y (out)
part B pins: C1 2A (in), C2 2Y (out)
part C pins: B1 GND (power), B2 VCC (power)

## SN74AUP2G79DCUR
designator U?
Low-Power Dual Positive-Edge-Triggered D-Type Flip-Flop, DCU0008A, LARGE T&R; Generic Part Number: SN74AUP2G79; Manufacturer: Texas Instruments; PartNumber: SN74AUP2G79DCUR; VCC(Min)(V): 0.8; VCC(Max)(V): 3.6; Output Type: CMOS; ICC @ Nom Voltage(Max)(mA): 0.0009; Bits(#): 2; F @ Nom Voltage(Max)(Mhz): 100; Rating: Catalog; Technology Family: AUP; Voltage(Nom)(V): 0.8,1.2,1.5,1.8,2.5,3.3; Schmitt Trigger: No; Output Drive (IOL/IOH)(Max)(mA): 20/-20; tpd @ Nom Voltage(Max)(ns): 27.2,17.3,13.3,11.3,7.8,6.3; Logic: True; DatasheetVersion: SCES755C; PackageReference: DCU0008A; Supplier 1: Mouser; Supplier Part Number 1: 595-SN74AUP2G79DCUR; Supplier 2: Digi-Key; Supplier Part Number 2: 296-25598-2-ND; Supplier 3: Digi-Key; Supplier Part Number 3: 296-25598-1-ND; Supplier 4: Digi-Key; Supplier Part Number 4: 296-25598-6-ND; Input Type: CMOS; Operating Temperature Range(C): -40 to 85; 3-State Output: No; Sub-Family: D-Type Flip-Flop; ComponentLink1Description: Manufacturer URL; ComponentLink1URL: http://www.ti.com/; ComponentLink2Description: Datasheet; ComponentLink2URL: http://www.ti.com/lit/ds/symlink/sn74aup2g79.pdf
footprint DCU0008A_N (SOP, 8-Leads, Body 2.4x2.1mm, Pitch 0.5mm, IPC Medium Density)
footprint DCU0008A_M (SOP, 8-Leads, Body 2.4x2.1mm, Pitch 0.5mm, IPC Low Density)
footprint DCU0008A_L (SOP, 8-Leads, Body 2.4x2.1mm, Pitch 0.5mm, IPC High Density)
part A pins: 1 1CLK (in), 2 1D (in), 7 1Q (out)
part B pins: 3 2Q (out), 5 2CLK (in), 6 2D (in)
part C pins: 4 GND (power), 8 VCC (power)

## SN74AUP2G79DQER
designator U?
Low-Power Dual Positive-Edge-Triggered D-Type Flip-Flop, DQE0008A, LARGE T&R; Generic Part Number: SN74AUP2G79; Manufacturer: Texas Instruments; PartNumber: SN74AUP2G79DQER; VCC(Min)(V): 0.8; VCC(Max)(V): 3.6; Output Type: CMOS; ICC @ Nom Voltage(Max)(mA): 0.0009; Bits(#): 2; F @ Nom Voltage(Max)(Mhz): 100; Rating: Catalog; Technology Family: AUP; Voltage(Nom)(V): 0.8,1.2,1.5,1.8,2.5,3.3; Schmitt Trigger: No; Output Drive (IOL/IOH)(Max)(mA): 20/-20; tpd @ Nom Voltage(Max)(ns): 27.2,17.3,13.3,11.3,7.8,6.3; Logic: True; DatasheetVersion: SCES755C; PackageReference: DQE0008A; Supplier 1: Mouser; Supplier Part Number 1: 595-SN74AUP2G79DQER; Supplier 2: Digi-Key; Supplier Part Number 2: 296-25874-2-ND; Supplier 3: Digi-Key; Supplier Part Number 3: 296-25874-1-ND; Supplier 4: Digi-Key; Supplier Part Number 4: 296-25874-6-ND; Input Type: CMOS; Operating Temperature Range(C): -40 to 85; 3-State Output: No; Sub-Family: D-Type Flip-Flop; ComponentLink1Description: Manufacturer URL; ComponentLink1URL: http://www.ti.com/; ComponentLink2Description: Datasheet; ComponentLink2URL: http://www.ti.com/lit/ds/symlink/sn74aup2g79.pdf
footprint DQE0008A_V (SON, 8-Leads, Body 1.4x1mm, Pitch 0.35mm, TI Recommend)
part A pins: 1 1CLK (in), 2 1D (in), 7 1Q (out)
part B pins: 3 2Q (out), 5 2CLK (in), 6 2D (in)
part C pins: 4 GND (power), 8 VCC (power)

## SN74AUP2G79RSER
designator U?
Low-Power Dual Positive-Edge-Triggered D-Type Flip-Flop, RSE0008A, LARGE T&R; Generic Part Number: SN74AUP2G79; Manufacturer: Texas Instruments; PartNumber: SN74AUP2G79RSER; VCC(Min)(V): 0.8; VCC(Max)(V): 3.6; Output Type: CMOS; ICC @ Nom Voltage(Max)(mA): 0.0009; Bits(#): 2; F @ Nom Voltage(Max)(Mhz): 100; Rating: Catalog; Technology Family: AUP; Voltage(Nom)(V): 0.8,1.2,1.5,1.8,2.5,3.3; Schmitt Trigger: No; Output Drive (IOL/IOH)(Max)(mA): 20/-20; tpd @ Nom Voltage(Max)(ns): 27.2,17.3,13.3,11.3,7.8,6.3; Logic: True; DatasheetVersion: SCES755C; PackageReference: RSE0008A; Supplier 1: Mouser; Supplier Part Number 1: 595-SN74AUP2G79RSER; Supplier 2: Digi-Key; Supplier Part Number 2: 296-27496-2-ND; Supplier 3: Digi-Key; Supplier Part Number 3: 296-27496-1-ND; Supplier 4: Digi-Key; Supplier Part Number 4: 296-27496-6-ND; Input Type: CMOS; Operating Temperature Range(C): -40 to 85; 3-State Output: No; Sub-Family: D-Type Flip-Flop; ComponentLink1Description: Manufacturer URL; ComponentLink1URL: http://www.ti.com/; ComponentLink2Description: Datasheet; ComponentLink2URL: http://www.ti.com/lit/ds/symlink/sn74aup2g79.pdf
footprint RSE0008A_V (QFN, 8-Leads, Body 1.5x1.5mm, Pitch 0.5mm, TI Recommend)
part A pins: 1 1Q (out), 6 1D (in), 7 1CLK (in)
part B pins: 2 2D (in), 3 2CLK (in), 5 2Q (out)
part C pins: 4 GND (power), 8 VCC (power)

## SN74AUP2G79YFPR
designator U?
Low-Power Dual Positive-Edge-Triggered D-Type Flip-Flop, YZP0008AAAA, LARGE T&R; Generic Part Number: SN74AUP2G79; Manufacturer: Texas Instruments; PartNumber: SN74AUP2G79YFPR; VCC(Min)(V): 0.8; VCC(Max)(V): 3.6; Output Type: CMOS; ICC @ Nom Voltage(Max)(mA): 0.0009; Bits(#): 2; F @ Nom Voltage(Max)(Mhz): 100; Rating: Catalog; Technology Family: AUP; Voltage(Nom)(V): 0.8,1.2,1.5,1.8,2.5,3.3; Schmitt Trigger: No; Output Drive (IOL/IOH)(Max)(mA): 20/-20; tpd @ Nom Voltage(Max)(ns): 27.2,17.3,13.3,11.3,7.8,6.3; Logic: True; DatasheetVersion: SCES755C; PackageReference: YZP0008AAAA; Supplier 1: Mouser; Supplier Part Number 1: 595-SN74AUP2G79YFPR; Supplier 2: Digi-Key; Supplier Part Number 2: 296-25882-2-ND; Supplier 3: Digi-Key; Supplier Part Number 3: 296-25882-1-ND; Supplier 4: Digi-Key; Supplier Part Number 4: 296-25882-6-ND; Input Type: CMOS; Operating Temperature Range(C): -40 to 85; 3-State Output: No; Sub-Family: D-Type Flip-Flop; ComponentLink1Description: Manufacturer URL; ComponentLink1URL: http://www.ti.com/; ComponentLink2Description: Datasheet; ComponentLink2URL: http://www.ti.com/lit/ds/symlink/sn74aup2g79.pdf
footprint YZP0008AAAA (BGA, 8-Balls, Body 1.56x0.76mm, Pitch 0.4mm)
part A pins: A1 1CLK (in), B1 1D (in), B2 1Q (out)
part B pins: C1 2Q (out), C2 2D (in), D2 2CLK (in)
part C pins: A2 VCC (power), D1 GND (power)

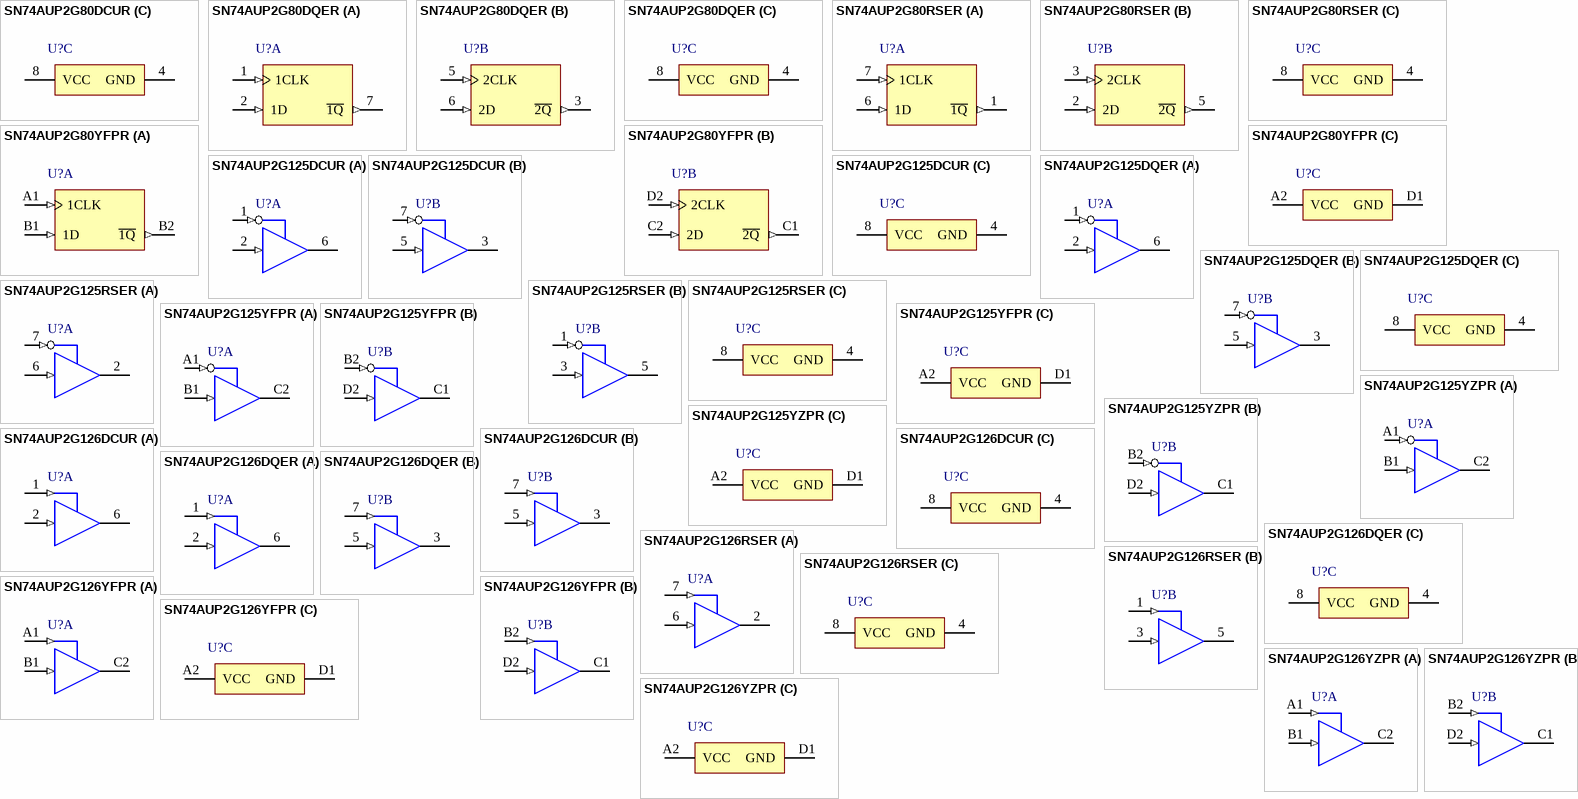
[diagram p27: symbols SN74AUP2G80DCUR to SN74AUP2G126YZPR]

## SN74AUP2G80DCUR
designator U?
Low-Power Dual Positive-Edge-Triggered D-Type Flip-Flop, DCU0008A, LARGE T&R; Generic Part Number: SN74AUP2G80; Manufacturer: Texas Instruments; PartNumber: SN74AUP2G80DCUR; VCC(Min)(V): 0.8; VCC(Max)(V): 3.6; Output Type: CMOS; ICC @ Nom Voltage(Max)(mA): 0.0009; Bits(#): 2; F @ Nom Voltage(Max)(Mhz): 100; Rating: Catalog; Technology Family: AUP; Voltage(Nom)(V): 0.8,1.2,1.5,1.8,2.5,3.3; Schmitt Trigger: No; Output Drive (IOL/IOH)(Max)(mA): 20/-20; tpd @ Nom Voltage(Max)(ns): 28.4,20.7,14.1,11.2,7.9,6.4; Logic: True; DatasheetVersion: SCES756A; PackageReference: DCU0008A; Supplier 1: Mouser; Supplier Part Number 1: 595-SN74AUP2G80DCUR; Supplier 2: Digi-Key; Supplier Part Number 2: 296-25599-2-ND; Supplier 3: Digi-Key; Supplier Part Number 3: 296-25599-1-ND; Supplier 4: Digi-Key; Supplier Part Number 4: 296-25599-6-ND; Input Type: CMOS; Operating Temperature Range(C): -40 to 85; 3-State Output: No; Sub-Family: D-Type Flip-Flop; ComponentLink1Description: Manufacturer URL; ComponentLink1URL: http://www.ti.com/; ComponentLink2Description: Datasheet; ComponentLink2URL: http://www.ti.com/lit/ds/symlink/sn74aup2g80.pdf
footprint DCU0008A_N (SOP, 8-Leads, Body 2.4x2.1mm, Pitch 0.5mm, IPC Medium Density)
footprint DCU0008A_M (SOP, 8-Leads, Body 2.4x2.1mm, Pitch 0.5mm, IPC Low Density)
footprint DCU0008A_L (SOP, 8-Leads, Body 2.4x2.1mm, Pitch 0.5mm, IPC High Density)
part A pins: 1 1CLK (in), 2 1D (in), 7 ~{1Q} (out)
part B pins: 3 ~{2Q} (out), 5 2CLK (in), 6 2D (in)
part C pins: 4 GND (power), 8 VCC (power)

## SN74AUP2G80DQER
designator U?
Low-Power Dual Positive-Edge-Triggered D-Type Flip-Flop, DQE0008A, LARGE T&R; Generic Part Number: SN74AUP2G80; Manufacturer: Texas Instruments; PartNumber: SN74AUP2G80DQER; VCC(Min)(V): 0.8; VCC(Max)(V): 3.6; Output Type: CMOS; ICC @ Nom Voltage(Max)(mA): 0.0009; Bits(#): 2; F @ Nom Voltage(Max)(Mhz): 100; Rating: Catalog; Technology Family: AUP; Voltage(Nom)(V): 0.8,1.2,1.5,1.8,2.5,3.3; Schmitt Trigger: No; Output Drive (IOL/IOH)(Max)(mA): 20/-20; tpd @ Nom Voltage(Max)(ns): 28.4,20.7,14.1,11.2,7.9,6.4; Logic: True; DatasheetVersion: SCES756A; PackageReference: DQE0008A; Supplier 1: Mouser; Supplier Part Number 1: 595-SN74AUP2G80DQER; Supplier 2: Digi-Key; Supplier Part Number 2: 296-36971-2-ND; Supplier 3: Digi-Key; Supplier Part Number 3: 296-36971-1-ND; Supplier 4: Digi-Key; Supplier Part Number 4: 296-36971-6-ND; Input Type: CMOS; Operating Temperature Range(C): -40 to 85; 3-State Output: No; Sub-Family: D-Type Flip-Flop; ComponentLink1Description: Manufacturer URL; ComponentLink1URL: http://www.ti.com/; ComponentLink2Description: Datasheet; ComponentLink2URL: http://www.ti.com/lit/ds/symlink/sn74aup2g80.pdf
footprint DQE0008A_V (SON, 8-Leads, Body 1.4x1mm, Pitch 0.35mm, TI Recommend)
part A pins: 1 1CLK (in), 2 1D (in), 7 ~{1Q} (out)
part B pins: 3 ~{2Q} (out), 5 2CLK (in), 6 2D (in)
part C pins: 4 GND (power), 8 VCC (power)

## SN74AUP2G80RSER
designator U?
Low-Power Dual Positive-Edge-Triggered D-Type Flip-Flop, RSE0008A, LARGE T&R; Generic Part Number: SN74AUP2G80; Manufacturer: Texas Instruments; PartNumber: SN74AUP2G80RSER; VCC(Min)(V): 0.8; VCC(Max)(V): 3.6; Output Type: CMOS; ICC @ Nom Voltage(Max)(mA): 0.0009; Bits(#): 2; F @ Nom Voltage(Max)(Mhz): 100; Rating: Catalog; Technology Family: AUP; Voltage(Nom)(V): 0.8,1.2,1.5,1.8,2.5,3.3; Schmitt Trigger: No; Output Drive (IOL/IOH)(Max)(mA): 20/-20; tpd @ Nom Voltage(Max)(ns): 28.4,20.7,14.1,11.2,7.9,6.4; Logic: True; DatasheetVersion: SCES756A; PackageReference: RSE0008A; Supplier 1: Mouser; Supplier Part Number 1: 595-SN74AUP2G80RSER; Supplier 2: Digi-Key; Supplier Part Number 2: 296-27497-2-ND; Supplier 3: Digi-Key; Supplier Part Number 3: 296-27497-1-ND; Supplier 4: Digi-Key; Supplier Part Number 4: 296-27497-6-ND; Input Type: CMOS; Operating Temperature Range(C): -40 to 85; 3-State Output: No; Sub-Family: D-Type Flip-Flop; ComponentLink1Description: Manufacturer URL; ComponentLink1URL: http://www.ti.com/; ComponentLink2Description: Datasheet; ComponentLink2URL: http://www.ti.com/lit/ds/symlink/sn74aup2g80.pdf
footprint RSE0008A_V (QFN, 8-Leads, Body 1.5x1.5mm, Pitch 0.5mm, TI Recommend)
part A pins: 1 ~{1Q} (out), 6 1D (in), 7 1CLK (in)
part B pins: 2 2D (in), 3 2CLK (in), 5 ~{2Q} (out)
part C pins: 4 GND (power), 8 VCC (power)

## SN74AUP2G80YFPR
designator U?
Low-Power Dual Positive-Edge-Triggered D-Type Flip-Flop, YZP0008AAAA, LARGE T&R; Generic Part Number: SN74AUP2G80; Manufacturer: Texas Instruments; PartNumber: SN74AUP2G80YFPR; VCC(Min)(V): 0.8; VCC(Max)(V): 3.6; Output Type: CMOS; ICC @ Nom Voltage(Max)(mA): 0.0009; Bits(#): 2; F @ Nom Voltage(Max)(Mhz): 100; Rating: Catalog; Technology Family: AUP; Voltage(Nom)(V): 0.8,1.2,1.5,1.8,2.5,3.3; Schmitt Trigger: No; Output Drive (IOL/IOH)(Max)(mA): 20/-20; tpd @ Nom Voltage(Max)(ns): 28.4,20.7,14.1,11.2,7.9,6.4; Logic: True; DatasheetVersion: SCES756A; PackageReference: YZP0008AAAA; Supplier 1: Mouser; Supplier Part Number 1: 595-SN74AUP2G80YFPR; Supplier 2: Digi-Key; Supplier Part Number 2: 296-25875-2-ND; Supplier 3: Digi-Key; Supplier Part Number 3: 296-25875-1-ND; Supplier 4: Digi-Key; Supplier Part Number 4: 296-25875-6-ND; Input Type: CMOS; Operating Temperature Range(C): -40 to 85; 3-State Output: No; Sub-Family: D-Type Flip-Flop; ComponentLink1Description: Manufacturer URL; ComponentLink1URL: http://www.ti.com/; ComponentLink2Description: Datasheet; ComponentLink2URL: http://www.ti.com/lit/ds/symlink/sn74aup2g80.pdf
footprint YZP0008AAAA (BGA, 8-Balls, Body 1.56x0.76mm, Pitch 0.4mm)
part A pins: A1 1CLK (in), B1 1D (in), B2 ~{1Q} (out)
part B pins: C1 ~{2Q} (out), C2 2D (in), D2 2CLK (in)
part C pins: A2 VCC (power), D1 GND (power)

## SN74AUP2G125DCUR
designator U?
Low-Power Dual Bus Buffer Gate With 3-State Outputs, DCU0008A, LARGE T&R; Generic Part Number: SN74AUP2G125; Manufacturer: Texas Instruments; PartNumber: SN74AUP2G125DCUR; VCC(Min)(V): 0.8; VCC(Max)(V): 3.6; Output Type: CMOS; ICC @ Nom Voltage(Max)(mA): 0.0009; Bits(#): 2; F @ Nom Voltage(Max)(Mhz): 100; Rating: Catalog; Technology Family: AUP; Voltage(Nom)(V): 0.8,1.2,1.5,1.8,2.5,3.3; Schmitt Trigger: No; Output Drive (IOL/IOH)(Max)(mA): 20/-20; tpd @ Nom Voltage(Max)(ns): 37.9,30.2,17.2,13.0,8.3,6.5; Logic: True; Sub-Family: Non-Inverting Buffer/Driver; 3-State Output: Yes; DatasheetVersion: SCES688D; PackageReference: DCU0008A; Supplier 1: Mouser; Supplier Part Number 1: 595-SN74AUP2G125DCUR; Supplier 2: Digi-Key; Supplier Part Number 2: 296-32272-2-ND; Supplier 3: Digi-Key; Supplier Part Number 3: 296-32272-1-ND; Supplier 4: Digi-Key; Supplier Part Number 4: 296-32272-6-ND; Input Type: CMOS; Operating Temperature Range(C): -40 to 85; ComponentLink1Description: Manufacturer URL; ComponentLink1URL: http://www.ti.com/; ComponentLink2Description: Datasheet; ComponentLink2URL: http://www.ti.com/lit/ds/symlink/sn74aup2g125.pdf
footprint DCU0008A_N (SOP, 8-Leads, Body 2.4x2.1mm, Pitch 0.5mm, IPC Medium Density)
footprint DCU0008A_M (SOP, 8-Leads, Body 2.4x2.1mm, Pitch 0.5mm, IPC Low Density)
footprint DCU0008A_L (SOP, 8-Leads, Body 2.4x2.1mm, Pitch 0.5mm, IPC High Density)
part A pins: 1 1~{OE} (in) "Output Enable for buffer 1", 2 1A (in) "Input", 6 1Y (hiz) "Output"
part B pins: 3 2Y (hiz) "Output", 5 2A (in) "Input", 7 2~{OE} (in) "Output Enable for buffer 2"
part C pins: 4 GND (power) "Ground Pin", 8 VCC (power) "Power Pin"

## SN74AUP2G125DQER
designator U?
Low-Power Dual Bus Buffer Gate With 3-State Outputs, DQE0008A, LARGE T&R; Generic Part Number: SN74AUP2G125; Manufacturer: Texas Instruments; PartNumber: SN74AUP2G125DQER; VCC(Min)(V): 0.8; VCC(Max)(V): 3.6; Output Type: CMOS; ICC @ Nom Voltage(Max)(mA): 0.0009; Bits(#): 2; F @ Nom Voltage(Max)(Mhz): 100; Rating: Catalog; Technology Family: AUP; Voltage(Nom)(V): 0.8,1.2,1.5,1.8,2.5,3.3; Schmitt Trigger: No; Output Drive (IOL/IOH)(Max)(mA): 20/-20; tpd @ Nom Voltage(Max)(ns): 37.9,30.2,17.2,13.0,8.3,6.5; Logic: True; Sub-Family: Non-Inverting Buffer/Driver; 3-State Output: Yes; DatasheetVersion: SCES688D; PackageReference: DQE0008A; Supplier 1: Mouser; Supplier Part Number 1: 595-SN74AUP2G125DQER; Supplier 2: Digi-Key; Supplier Part Number 2: 296-27359-2-ND; Supplier 3: Digi-Key; Supplier Part Number 3: 296-27359-1-ND; Supplier 4: Digi-Key; Supplier Part Number 4: 296-27359-6-ND; Input Type: CMOS; Operating Temperature Range(C): -40 to 85; ComponentLink1Description: Manufacturer URL; ComponentLink1URL: http://www.ti.com/; ComponentLink2Description: Datasheet; ComponentLink2URL: http://www.ti.com/lit/ds/symlink/sn74aup2g125.pdf
footprint DQE0008A_V (SON, 8-Leads, Body 1.4x1mm, Pitch 0.35mm, TI Recommend)
part A pins: 1 1~{OE} (in) "Output Enable for buffer 1", 2 1A (in) "Input", 6 1Y (hiz) "Output"
part B pins: 3 2Y (hiz) "Output", 5 2A (in) "Input", 7 2~{OE} (in) "Output Enable for buffer 2"
part C pins: 4 GND (power) "Ground Pin", 8 VCC (power) "Power Pin"

## SN74AUP2G125RSER
designator U?
Low-Power Dual Bus Buffer Gate With 3-State Outputs, RSE0008A, LARGE T&R; Generic Part Number: SN74AUP2G125; Manufacturer: Texas Instruments; PartNumber: SN74AUP2G125RSER; VCC(Min)(V): 0.8; VCC(Max)(V): 3.6; Output Type: CMOS; ICC @ Nom Voltage(Max)(mA): 0.0009; Bits(#): 2; F @ Nom Voltage(Max)(Mhz): 100; Rating: Catalog; Technology Family: AUP; Voltage(Nom)(V): 0.8,1.2,1.5,1.8,2.5,3.3; Schmitt Trigger: No; Output Drive (IOL/IOH)(Max)(mA): 20/-20; tpd @ Nom Voltage(Max)(ns): 37.9,30.2,17.2,13.0,8.3,6.5; Logic: True; Sub-Family: Non-Inverting Buffer/Driver; 3-State Output: Yes; DatasheetVersion: SCES688D; PackageReference: RSE0008A; Supplier 1: Mouser; Supplier Part Number 1: 595-SN74AUP2G125RSER; Supplier 2: Digi-Key; Supplier Part Number 2: 296-27360-2-ND; Supplier 3: Digi-Key; Supplier Part Number 3: 296-27360-1-ND; Supplier 4: Digi-Key; Supplier Part Number 4: 296-27360-6-ND; Input Type: CMOS; Operating Temperature Range(C): -40 to 85; ComponentLink1Description: Manufacturer URL; ComponentLink1URL: http://www.ti.com/; ComponentLink2Description: Datasheet; ComponentLink2URL: http://www.ti.com/lit/ds/symlink/sn74aup2g125.pdf
footprint RSE0008A_V (QFN, 8-Leads, Body 1.5x1.5mm, Pitch 0.5mm, TI Recommend)
part A pins: 2 1Y (hiz), 6 1A (in), 7 1~{OE} (in)
part B pins: 1 2~{OE} (in), 3 2A (in), 5 2Y (hiz)
part C pins: 4 GND (power), 8 VCC (power)

## SN74AUP2G125YFPR
designator U?
Low-Power Dual Bus Buffer Gate With 3-State Outputs, YZP0008AAAA, LARGE T&R; Generic Part Number: SN74AUP2G125; Manufacturer: Texas Instruments; PartNumber: SN74AUP2G125YFPR; VCC(Min)(V): 0.8; VCC(Max)(V): 3.6; Output Type: CMOS; ICC @ Nom Voltage(Max)(mA): 0.0009; Bits(#): 2; F @ Nom Voltage(Max)(Mhz): 100; Rating: Catalog; Technology Family: AUP; Voltage(Nom)(V): 0.8,1.2,1.5,1.8,2.5,3.3; Schmitt Trigger: No; Output Drive (IOL/IOH)(Max)(mA): 20/-20; tpd @ Nom Voltage(Max)(ns): 37.9,30.2,17.2,13.0,8.3,6.5; Logic: True; Sub-Family: Non-Inverting Buffer/Driver; 3-State Output: Yes; DatasheetVersion: SCES688D; PackageReference: YZP0008AAAA; Supplier 1: Mouser; Supplier Part Number 1: 595-SN74AUP2G125YFPR; Supplier 2: Digi-Key; Supplier Part Number 2: 296-23861-2-ND; Supplier 3: Digi-Key; Supplier Part Number 3: 296-23861-1-ND; Supplier 4: Digi-Key; Supplier Part Number 4: 296-23861-6-ND; Input Type: CMOS; Operating Temperature Range(C): -40 to 85; ComponentLink1Description: Manufacturer URL; ComponentLink1URL: http://www.ti.com/; ComponentLink2Description: Datasheet; ComponentLink2URL: http://www.ti.com/lit/ds/symlink/sn74aup2g125.pdf
footprint YZP0008AAAA (BGA, 8-Balls, Body 1.56x0.76mm, Pitch 0.4mm)
part A pins: A1 1~{OE} (in) "Output Enable for buffer 1", B1 1A (in) "Input", C2 1Y (hiz) "Output"
part B pins: B2 2~{OE} (in) "Output Enable for buffer 2", C1 2Y (hiz) "Output", D2 2A (in) "Input"
part C pins: A2 VCC (power) "Power pin", D1 GND (power) "Ground"